# Altium footprint library PcbLib1.PcbLib: 2 footprints
Each footprint in its own frame and in the unit in brackets; x right, y up, seen from the top. Pads: shape width x height; smd on the part's side, far side on the other; paste and mask are expansions set on the pad; w line width, h text height; cw(c..) or ccw(c..) is an arc to the next point about the centre after c.
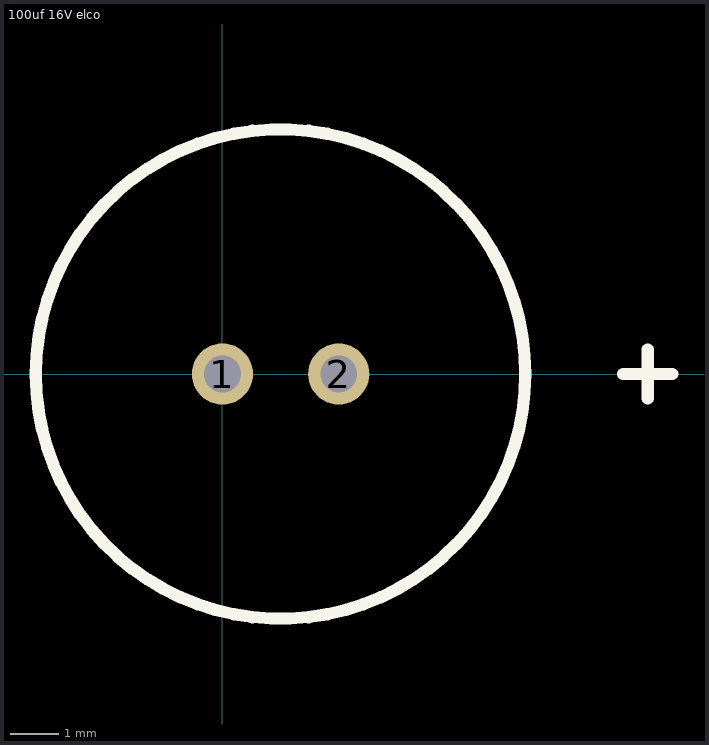
[diagram p0: the footprints below, top view; thin cyan lines are the x and y axes]

## 100uf 16V elco [mil]
pads (2):
  round 50 hole 30: 1(0,0) 2(95,0)
Top Overlay:
  circle w10: c47.5,0 r200
  lines w10: 327.5,0 367.5,0 ; 347.5,-20 347.5,20

## PCBComponent_1 [mil]